# Altium footprint library Helianthus 2.1 Footprints.PcbLib: 24 footprints (part 2 of 2)
Each footprint in its own frame and in the unit in brackets; x right, y up, seen from the top. Pads: shape width x height; smd on the part's side, far side on the other; paste and mask are expansions set on the pad; w line width, h text height; cw(c..) or ccw(c..) is an arc to the next point about the centre after c.
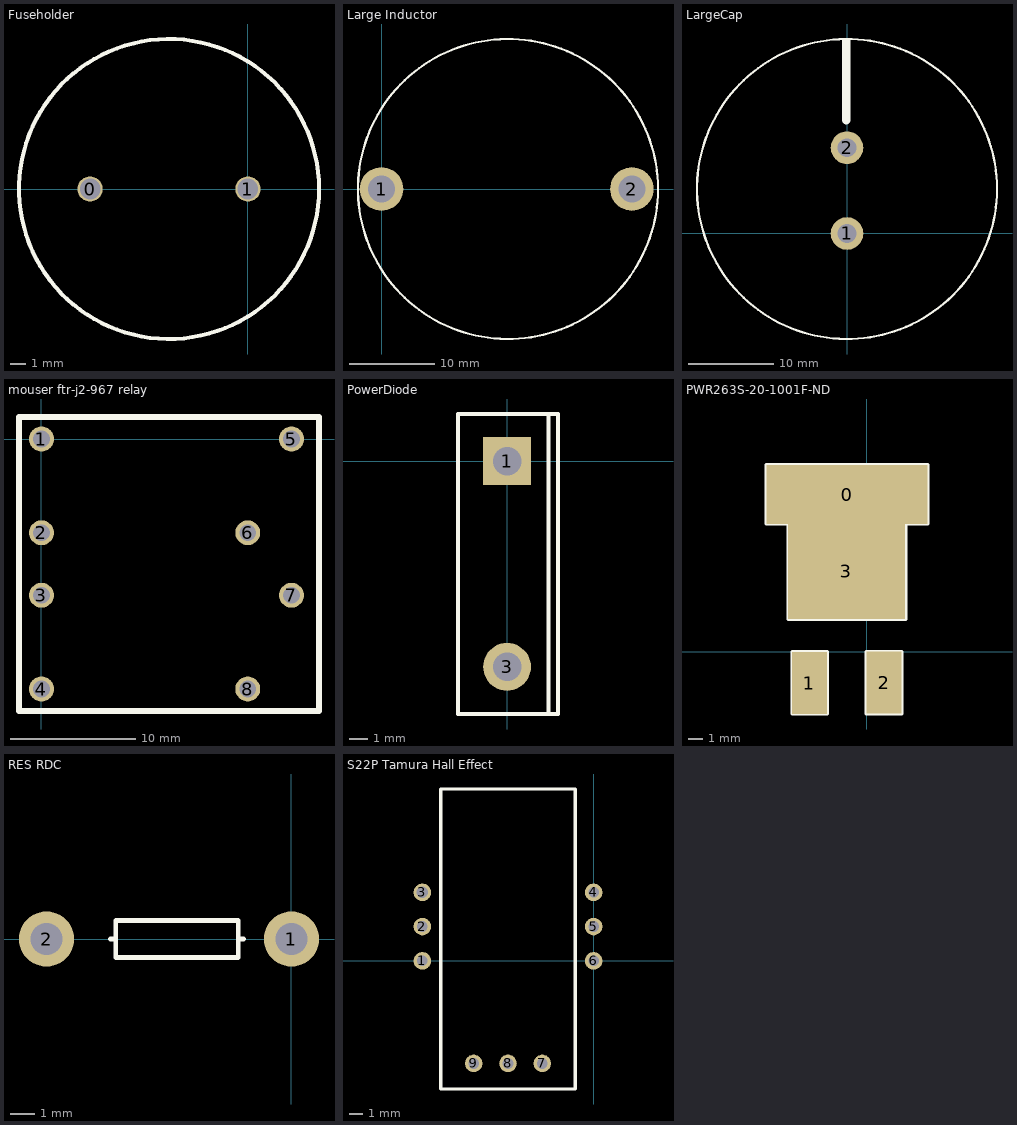
[diagram p1: the footprints below, top view; thin cyan lines are the x and y axes]

## Fuseholder [mm]
pads (2):
  round 1.6 hole 1.3: 0(-10,0) 1(0,0)
Top Overlay:
  circle w0.254: c-5,0 r9.5

## Large Inductor [mm]
pads (2):
  round 5.08 hole 3.175: 1(0,0) 2(29.21,0)
Top Overlay:
  circle w0.254: c14.757,0 r17.501

## LargeCap [mil]
pads (2):
  round 150 hole 86: 1(0,0) 2(0,394)
Top Overlay:
  circle w10: c0,204.31 r688.98
  rectangle: -24,701 16,890.75
  lines w40: -4,521 -4,781

## mouser ftr-j2-967 relay [mm]
pads (8):
  round 2 hole 1.321: 1(0,0) 2(0,-7.5) 3(0,-12.5) 4(0,-20) 5(20,0) 6(16.5,-7.5) 7(20,-12.5) 8(16.5,-20)
Top Overlay:
  lines w0.5: -1.8,-21.75 -1.8,1.75 22.2,1.75 22.2,-21.75 -1.8,-21.75

## PowerDiode [mil]
pads (2):
  rect 100x100 hole 59.5: 1(0,0)
  round 100 hole 59.5: 3(0,-429.13)
Top Overlay:
  lines w7.87: 86.61,-527.56 86.61,98.43 ; -102.36,-527.56 -102.36,98.43 106.3,98.43 106.3,-527.56 -102.36,-527.56

## PWR263S-20-1001F-ND [mm]
pads (4):
  rect 11x4.02 smd: 0(-1.325,10.75)
  rect 2.4x4.23 smd: 1(-3.9,-2.125) 2(1.2,-2.1)
  rect 8x6.5 smd: 3(-1.375,5.5)
Top Overlay:
  lines w0.254: -6.84,8.75 -5.34,8.75 -5.34,2.25 2.66,2.25 2.66,8.75 4.16,8.75 4.16,12.77 -6.84,12.77 -6.84,8.75 ; -5.08,-4.23 -2.68,-4.23 -2.68,0 -5.08,0 -5.08,-4.23 ; 0,-4.23 0,0 2.4,0 2.4,-4.23 0,-4.23

## RES RDC [mil]
pads (2):
  round 90 hole 52: 1(0,0) 2(-400,0)
Top Overlay:
  lines w7.87: -296,0 -287,0 ; -87,0 -78,0 ; -287,0 -287,30 -87,30 -87,-30 -287,-30 -287,0

## S22P Tamura Hall Effect [mm]
pads (9):
  round 1.3 hole 0.8: 1(-12.7,0) 2(-12.7,2.54) 4(0,5.08) 5(0,2.54) 6(0,0) 7(-3.81,-7.6) 8(-6.35,-7.6) 9(-8.89,-7.6)
  round 1.3 hole 0.85: 3(-12.7,5.08)
Top Overlay:
  lines w0.254: -11.35,-9.5 -11.35,12.74 -1.35,12.74 -1.35,-9.5 -11.35,-9.5